# Altium footprint library ACM20129002PTL002.PcbLib: 1 footprints
Each footprint in its own frame and in the unit in brackets; x right, y up, seen from the top. Pads: shape width x height; smd on the part's side, far side on the other; paste and mask are expansions set on the pad; w line width, h text height; cw(c..) or ccw(c..) is an arc to the next point about the centre after c.
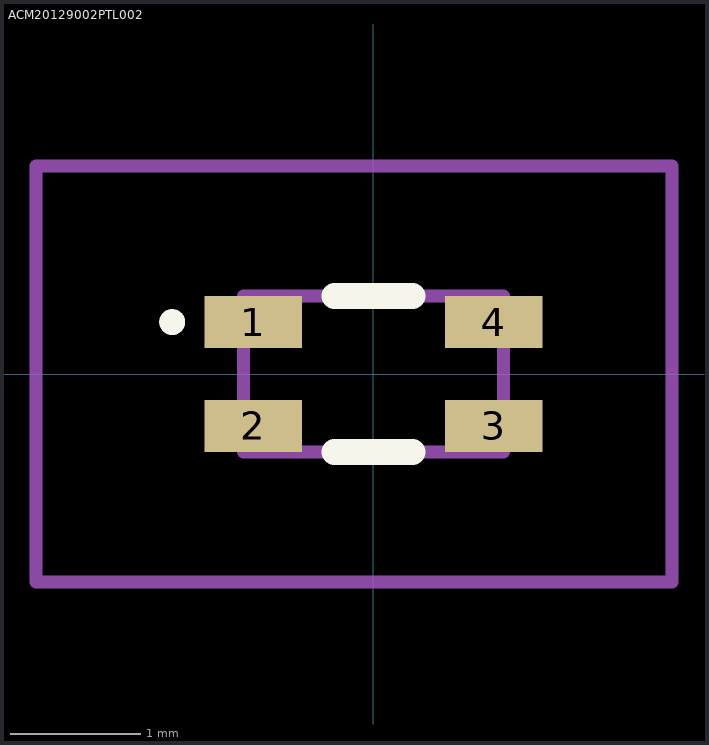
[diagram p0: the footprint, top view; thin cyan lines are the x and y axes]

## ACM20129002PTL002 [mm]
pads (4):
  rect 0.75x0.4 smd: 1(-0.925,0.4) 2(-0.925,-0.4) 3(0.925,-0.4) 4(0.925,0.4)
Top Overlay:
  lines w0.1: -1.6,0.4 cw(c-1.55,0.4) -1.5,0.4 ; -1.6,0.4 -1.6,0.4 ; -1.6,0.4 ccw(c-1.55,0.4) -1.5,0.4 ; -1.5,0.4 -1.5,0.4
  lines w0.2: -0.3,-0.6 0.3,-0.6 ; -0.3,0.6 0.3,0.6
Mechanical 15:
  lines w0.1: -1,-0.6 1,-0.6 1,0.6 -1,0.6 -1,-0.6
Mechanical 20:
  lines w0.1: -2.6,-1.6 2.3,-1.6 2.3,1.6 -2.6,1.6 -2.6,-1.6